# EAGLE library part TSM-120-L-DV (library MOTO_LIB)
.100" (2.54mm) Surface Mount, 2x20 Double Row, Vertical Mount, Male
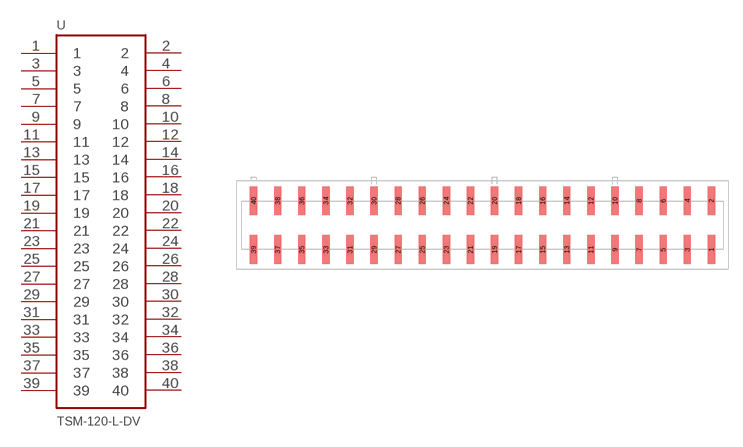
[diagram p1: symbol with the pads of TSM-120-L-DV; footprint TSM-120-L-DV]

Designator prefix -

## TSM-120-L-DV (MPN: ASP-193073-01; SUPPLIER: SAMTEC)  [TSM-120-L-DV]
1  1
2  2
3  3
4  4
5  5
6  6
7  7
8  8
9  9
10  10
11  11
12  12
13  13
14  14
15  15
16  16
17  17
18  18
19  19
20  20
21  21
22  22
23  23
24  24
25  25
26  26
27  27
28  28
29  29
30  30
31  31
32  32
33  33
34  34
35  35
36  36
37  37
38  38
39  39
40  40

## Footprint TSM-120-L-DV (pad centres in mm)
.100" (2,54mm) Surface Mount, Double Row, Vertical Mount. manufacturer:SAMTEC
smd 0.77 x 3.041: 1 24.13,-2.577; 2 24.13,2.577; 3 21.59,-2.577; 4 21.59,2.577; 5 19.05,-2.577; 6 19.05,2.577; 7 16.51,-2.577; 8 16.51,2.577; 9 13.97,-2.577; 10 13.97,2.577; 11 11.43,-2.577; 12 11.43,2.577; 13 8.89,-2.577; 14 8.89,2.577; 15 6.35,-2.577; 16 6.35,2.577; 17 3.81,-2.577; 18 3.81,2.577; 19 1.27,-2.577; 20 1.27,2.577; 21 -1.27,-2.577; 22 -1.27,2.577; 23 -3.81,-2.577; 24 -3.81,2.577; 25 -6.35,-2.577; 26 -6.35,2.577; 27 -8.89,-2.577; 28 -8.89,2.577; 29 -11.43,-2.577; 30 -11.43,2.577; 31 -13.97,-2.577; 32 -13.97,2.577; 33 -16.51,-2.577; 34 -16.51,2.577; 35 -19.05,-2.577; 36 -19.05,2.577; 37 -21.59,-2.577; 38 -21.59,2.577; 39 -24.13,-2.577; 40 -24.13,2.577